# Altium footprint library Murata_Inductors.PcbLib: 1 footprints
Each footprint in its own frame and in the unit in brackets; x right, y up, seen from the top. Pads: shape width x height; smd on the part's side, far side on the other; paste and mask are expansions set on the pad; w line width, h text height; cw(c..) or ccw(c..) is an arc to the next point about the centre after c.
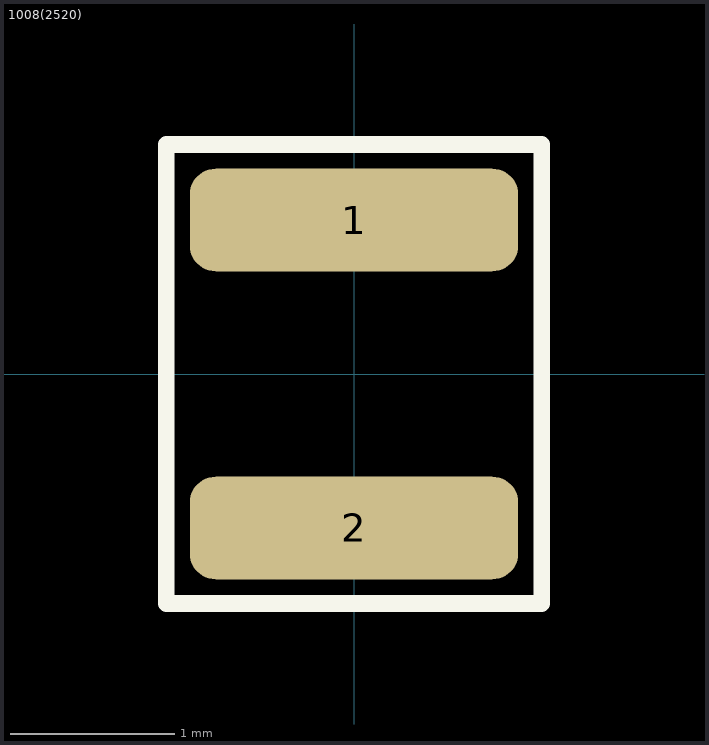
[diagram p0: the footprint, top view; thin cyan lines are the x and y axes]

## 1008(2520) [mm] "2.0 x 1.6 x 1.0 mm footprint for inductors."
pads (2):
  rrect50% 2x0.625 smd: 1(0,0.937) 2(0,-0.937)
Top Overlay:
  lines w0.102: -1.143,-1.397 1.143,-1.397 1.143,1.397 -1.143,1.397 -1.143,-1.397
3D body: height 1.8, standoff 0, extent -1,-1.25 1,1.25